# EAGLE library part RM-NOISE-DIST-V1.1 (library XM8)
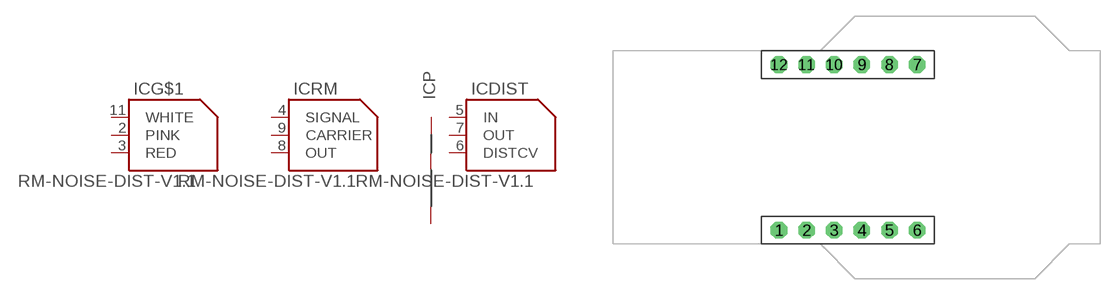
[diagram p35: symbol with the pads of XM8-RM-NOISE-DIST-V1.1N; footprint XM8-RM-NOISE-DIST-V1.1N]

Designator prefix IC; gates P=XM8-PWR DIST=XM8-DISTORTION-V1.3 RM=XM8-RING-MOD-V2.1 G$1=XM8-NOISE-V2.2

## RM-NOISE-DIST-V1.1  [XM8-RM-NOISE-DIST-V1.1N]
1  P:-V  pwr
2  G$1:PINK
3  G$1:RED
4  RM:SIGNAL
5  DIST:IN
6  DIST:DISTCV
7  DIST:OUT  out
8  RM:OUT
9  RM:CARRIER
10  P:AGND  pwr
11  G$1:WHITE
12  P:+V  pwr

## Footprint XM8-RM-NOISE-DIST-V1.1N (pad centres in mm)
Combined ring modulator, distortion and noise module
drill 1.016 octagon: 1 -6.35,-7.62; 2 -3.81,-7.62; 3 -1.27,-7.62; 4 1.27,-7.62; 5 3.81,-7.62; 6 6.35,-7.62; 7 6.35,7.62; 8 3.81,7.62; 9 1.27,7.62; 10 -1.27,7.62; 11 -3.81,7.62; 12 -6.35,7.62